# Altium schematic symbol library ABS05.SchLib: 1 symbol
Pins are listed as number, name and electrical type; pins without a type are passive.

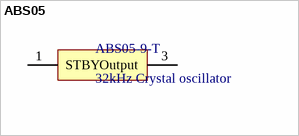
[diagram p0: symbol ABS05]

## ABS05
designator ABS05-9-T, comment 32kHz Crystal oscillator
Abracon 32kHz Crystal oscillator
footprint IQXO-984
pins: 1 STBY, 3 Output